# Altium schematic symbol library connector.SchLib: 40 symbols
Pins are listed as number, name and electrical type; pins without a type are passive.

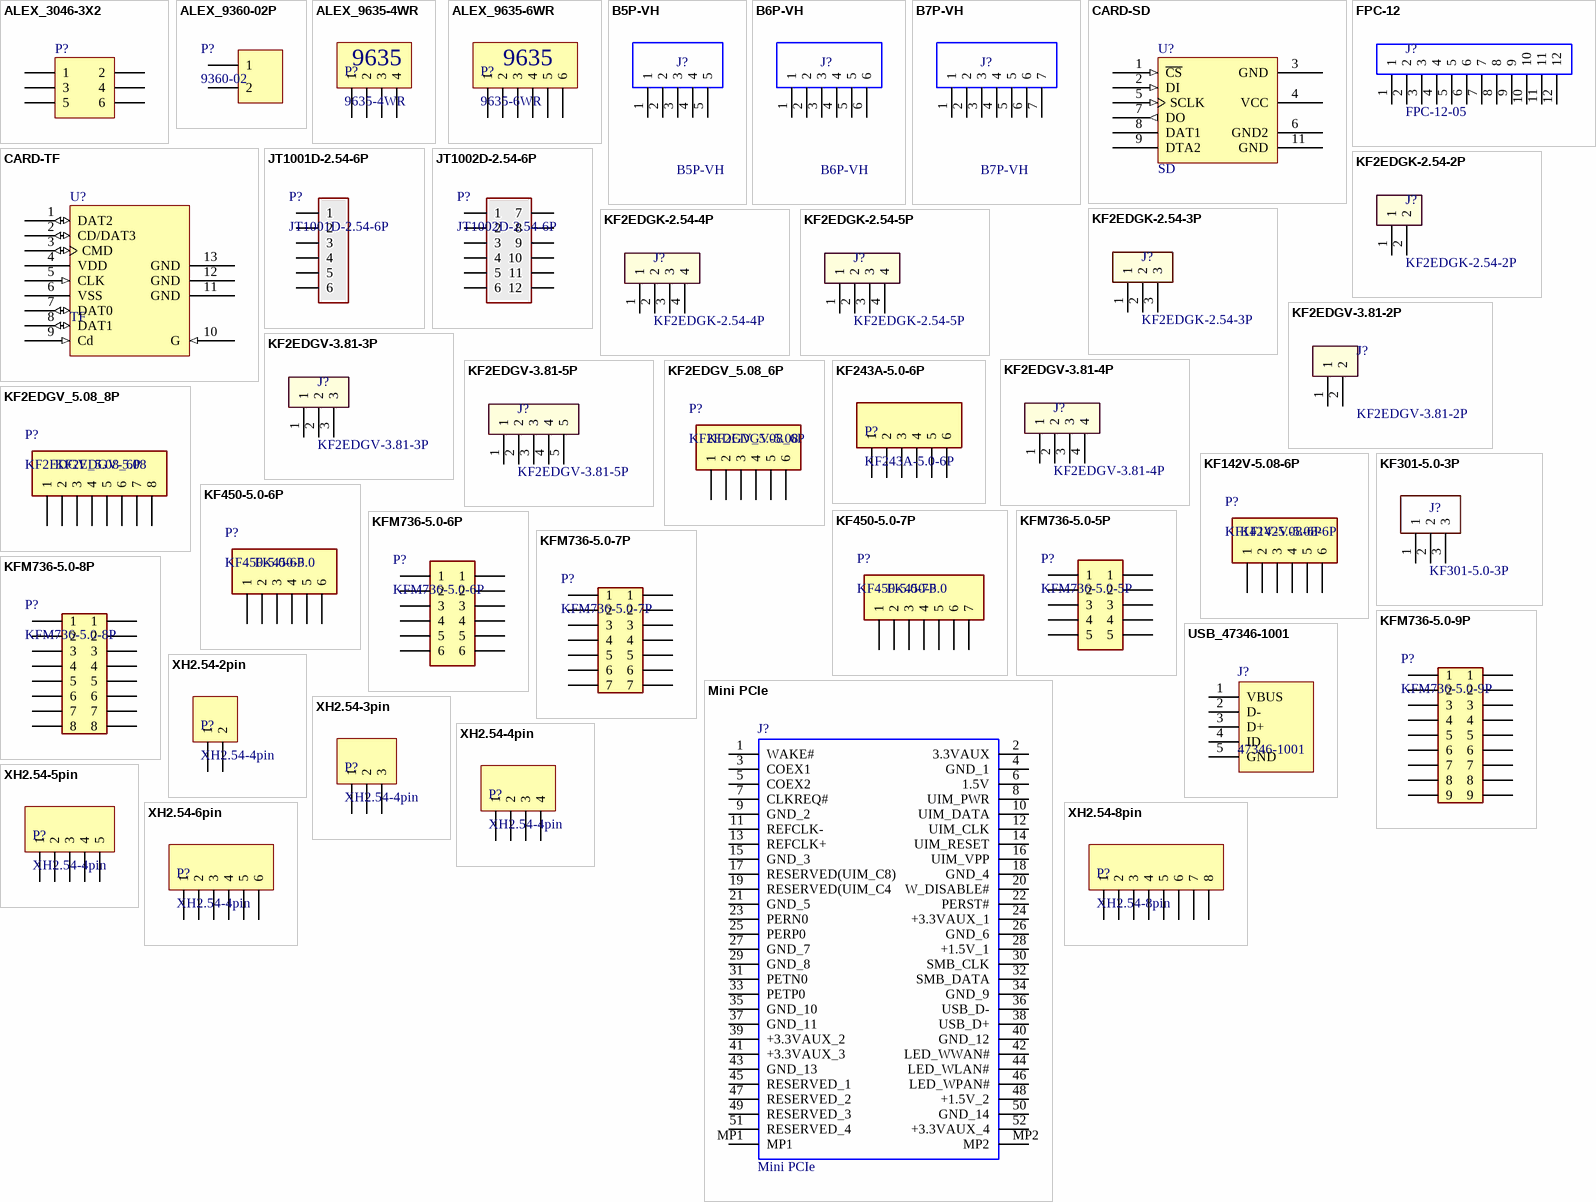
[diagram p0: symbols ALEX_3046-3X2 to XH2.54-8pin]

## ALEX_3046-3X2
designator P?, comment Header 3X2  (value not drawn)
ALEX3046-6P; LatestRevisionDate: 17-Jul-2002; LatestRevisionNote: Re-released for DXP Platform.; Publisher: Altium Limited; ComponentLink1Description: 网络链接; ComponentLink1URL: http://www.alexconn.net/c552.html
footprint ALEX_3046-N (配套3025-N)
pins: 1, 2, 3, 4, 5, 6

## ALEX_9360-02P
designator P?, comment 9360-02
Mini Fit直角接头/ .165“（4.20mm）电源连接器; ComponentLink1Description: 产品网络链接; ComponentLink1URL: http://www.alexconn.net/c521.html
footprint ALEX_9360-2P (Mini Fit直角接头/ .165“（4.20mm）电源连接器)
pins: 1, 2

## ALEX_9635-4WR
designator P?, comment 9635-4WR
直角接头6.35电源连接器; ComponentLink1Description: 产品网络链接; ComponentLink1URL: http://www.alexconn.net/c790.html
footprint ALEX_9635-4WR (Footprint not found)
pins: 1, 2, 3, 4
text: 9635

## ALEX_9635-6WR
designator P?, comment 9635-6WR
直角接头6.35电源连接器; ComponentLink1Description: 产品网络链接; ComponentLink1URL: http://www.alexconn.net/c790.html
footprint ALEX_9635-6WR (亚达康电源连接器)
pins: 1, 2, 3, 4, 5, 6
text: 9635

## B5P-VH
designator J?
VH-3.96mm Header top entry 5 way JST VH Series, Series Number B5P, 3.96mm Pitch 5 Way 1 Row Shrouded Straight PCB Header, Through Hole; Manufacturer_Name: JST (JAPAN SOLDERLESS TERMINALS); Manufacturer_Part_Number: B5P-VH(LF)(SN); Geometry.Height: 10.9mm; RS Part Number: 8201169P; RS Price/Stock: http://china.rs-online.com/web/p/products/8201169P; Arrow Part Number: B5P-VH(LF)(SN); Arrow Price/Stock: https://www.arrow.com/en/products/b5p-vh-lf-sn/jst-manufacturing; Datasheet Link: https://componentsearchengine.com/Datasheets/2/B5P-VH(LF)(SN).pdf; ComponentLink1Description: 供应商; ComponentLink1URL: https://item.taobao.com/item.htm?spm=a230r.1.14.131.16e64711CxwvJs&id=531944925306&ns=1&abbucket=16#detail
footprint B5P-VH
pins: 1, 2, 3, 4, 5

## B6P-VH
designator J?
VH-3.96mm Header top entry 5 way JST VH Series, Series Number B5P, 3.96mm Pitch 5 Way 1 Row Shrouded Straight PCB Header, Through Hole; Manufacturer_Name: JST (JAPAN SOLDERLESS TERMINALS); Manufacturer_Part_Number: B5P-VH(LF)(SN); Geometry.Height: 10.9mm; RS Part Number: 8201169P; RS Price/Stock: http://china.rs-online.com/web/p/products/8201169P; Arrow Part Number: B5P-VH(LF)(SN); Arrow Price/Stock: https://www.arrow.com/en/products/b5p-vh-lf-sn/jst-manufacturing; Datasheet Link: https://componentsearchengine.com/Datasheets/2/B5P-VH(LF)(SN).pdf; ComponentLink1Description: 供应商; ComponentLink1URL: https://item.taobao.com/item.htm?spm=a230r.1.14.131.16e64711CxwvJs&id=531944925306&ns=1&abbucket=16#detail
footprint B6P-VH
pins: 1, 2, 3, 4, 5, 6

## B7P-VH
designator J?
VH-3.96mm Header top entry 5 way JST VH Series, Series Number B5P, 3.96mm Pitch 5 Way 1 Row Shrouded Straight PCB Header, Through Hole; Manufacturer_Name: JST (JAPAN SOLDERLESS TERMINALS); Manufacturer_Part_Number: B5P-VH(LF)(SN); Geometry.Height: 10.9mm; RS Part Number: 8201169P; RS Price/Stock: http://china.rs-online.com/web/p/products/8201169P; Arrow Part Number: B5P-VH(LF)(SN); Arrow Price/Stock: https://www.arrow.com/en/products/b5p-vh-lf-sn/jst-manufacturing; Datasheet Link: https://componentsearchengine.com/Datasheets/2/B5P-VH(LF)(SN).pdf; ComponentLink1Description: 供应商; ComponentLink1URL: https://item.taobao.com/item.htm?spm=a230r.1.14.131.16e64711CxwvJs&id=531944925306&ns=1&abbucket=16#detail
footprint B7P-VH
pins: 1, 2, 3, 4, 5, 6, 7

## CARD-SD
designator U?, comment SD
SD卡槽
footprint CARD-SD
pins: 1 ~{CS} (in), 2 DI (in), 3 GND (power), 4 VCC (power), 5 SCLK (in), 6 GND2 (power), 7 DO (out), 8 DAT1, 9 DTA2, 11 GND (power)

## CARD-TF
designator U?, comment TF
TF卡槽
footprint CARD-TF
pins: 1 DAT2 (io), 2 CD/DAT3 (io), 3 CMD (io), 4 VDD (power), 5 CLK (in), 6 VSS (power), 7 DAT0 (io), 8 DAT1 (io), 9 Cd (in), 10 G (in), 11 GND (power), 12 GND (power), 13 GND (power)

## FPC-12
designator J?, comment FPC-12-05
FPC贴片端子; Manufacturer_Name: CIXI KEFA ELECTRONICS; Manufacturer_Part_Number: KF2EDGV-3.81; Geometry.Height: 9.2mm; Mouser Part Number: *; Mouser Price/Stock: *; RS Part Number: *; RS Price/Stock: *; Datasheet Link: http://en.cnkefa.com/uploads/2016/07/121709071486.pdf; ComponentLink1Description: 生产商; ComponentLink1URL: http://www.sofng.com/FPC/FFCsocket/2015/0331/195.html
footprint FPC-12
pins: 1, 2, 3, 4, 5, 6, 7, 8, 9, 10, 11, 12

## JT1001D-2.54-6P
designator P?
俊腾连接器; ComponentLink1Description: 俊腾连接器; ComponentLink1URL: http://www.nb-junteng.cn/product_info.aspx?id=179&cid=26
pins: 1, 2, 3, 4, 5, 6

## JT1002D-2.54-6P
designator P?
俊腾连接器; ComponentLink1Description: 俊腾连接器; ComponentLink1URL: http://www.nb-junteng.cn/product_info.aspx?id=180&cid=26
pins: 1, 2, 3, 4, 5, 6, 7, 8, 9, 10, 11, 12

## KF2EDGK-2.54-2P
designator J?
科发端子; Manufacturer_Name: CIXI KEFA ELECTRONICS; Manufacturer_Part_Number: KF2EDGV-3.81; Geometry.Height: 9.2mm; Mouser Part Number: *; Mouser Price/Stock: *; RS Part Number: *; RS Price/Stock: *; Datasheet Link: http://en.cnkefa.com/uploads/2016/07/121709071486.pdf; ComponentLink1Description: 科发端子; ComponentLink1URL: http://www.cnkefa.com/product/3141.html
footprint KF2EDGK-2.54-2P
pins: 1, 2

## KF2EDGK-2.54-3P
designator J?
科发端子; Manufacturer_Name: CIXI KEFA ELECTRONICS; Manufacturer_Part_Number: KF2EDGV-3.81; Geometry.Height: 9.2mm; Mouser Part Number: *; Mouser Price/Stock: *; RS Part Number: *; RS Price/Stock: *; Datasheet Link: http://en.cnkefa.com/uploads/2016/07/121709071486.pdf; ComponentLink1Description: 科发端子; ComponentLink1URL: http://www.cnkefa.com/product/3141.html
footprint KF2EDGK-2.54-3P
pins: 1, 2, 3

## KF2EDGK-2.54-4P
designator J?
科发端子; Manufacturer_Name: CIXI KEFA ELECTRONICS; Manufacturer_Part_Number: KF2EDGV-3.81; Geometry.Height: 9.2mm; Mouser Part Number: *; Mouser Price/Stock: *; RS Part Number: *; RS Price/Stock: *; Datasheet Link: http://en.cnkefa.com/uploads/2016/07/121709071486.pdf; ComponentLink1Description: 科发端子; ComponentLink1URL: http://www.cnkefa.com/product/3141.html
footprint KF2EDGK-2.54-4P
pins: 1, 2, 3, 4

## KF2EDGK-2.54-5P
designator J?
科发端子; Manufacturer_Name: CIXI KEFA ELECTRONICS; Manufacturer_Part_Number: KF2EDGV-3.81; Geometry.Height: 9.2mm; Mouser Part Number: *; Mouser Price/Stock: *; RS Part Number: *; RS Price/Stock: *; Datasheet Link: http://en.cnkefa.com/uploads/2016/07/121709071486.pdf; ComponentLink1Description: 科发端子; ComponentLink1URL: http://www.cnkefa.com/product/3141.html
footprint KF2EDGV-3.81-4P
pins: 1, 2, 3, 4

## KF2EDGV-3.81-2P
designator J?
科发端子; Manufacturer_Name: CIXI KEFA ELECTRONICS; Geometry.Height: 9.2mm; Manufacturer_Part_Number: KF2EDGV-3.81; Mouser Part Number: *; Mouser Price/Stock: *; RS Part Number: *; RS Price/Stock: *; Datasheet Link: http://en.cnkefa.com/uploads/2016/07/121709071486.pdf
footprint KF2EDGV-3.81-2P
pins: 1, 2

## KF2EDGV-3.81-3P
designator J?
科发端子; Manufacturer_Name: CIXI KEFA ELECTRONICS; Geometry.Height: 9.2mm; Manufacturer_Part_Number: KF2EDGV-3.81; Mouser Part Number: *; Mouser Price/Stock: *; RS Part Number: *; RS Price/Stock: *; Datasheet Link: http://en.cnkefa.com/uploads/2016/07/121709071486.pdf; ComponentLink1Description: 科发端子; ComponentLink1URL: http://www.cnkefa.com/product/3731.html
footprint KF2EDGV-3.81-3P
pins: 1, 2, 3

## KF2EDGV-3.81-4P
designator J?
科发端子; Manufacturer_Name: CIXI KEFA ELECTRONICS; Geometry.Height: 9.2mm; Manufacturer_Part_Number: KF2EDGV-3.81; Mouser Part Number: *; Mouser Price/Stock: *; RS Part Number: *; RS Price/Stock: *; Datasheet Link: http://en.cnkefa.com/uploads/2016/07/121709071486.pdf; ComponentLink1Description: 科发端子; ComponentLink1URL: http://www.cnkefa.com/product/3731.html
footprint KF2EDGV-3.81-4P
pins: 1, 2, 3, 4

## KF2EDGV-3.81-5P
designator J?
科发端子; Manufacturer_Name: CIXI KEFA ELECTRONICS; Geometry.Height: 9.2mm; Manufacturer_Part_Number: KF2EDGV-3.81; Mouser Part Number: *; Mouser Price/Stock: *; RS Part Number: *; RS Price/Stock: *; Datasheet Link: http://en.cnkefa.com/uploads/2016/07/121709071486.pdf; ComponentLink1Description: 科发端子; ComponentLink1URL: http://www.cnkefa.com/product/3731.html
footprint KF2EDGV-3.81-5P (Footprint not found)
pins: 1, 2, 3, 4, 5

## KF2EDGV_5.08_6P
designator P?
科发端子; ComponentLink1Description: 科发端子; ComponentLink1URL: http://www.cnkefa.com/product/4691.html; ComponentLink2Description: 配套插入端子; ComponentLink2URL: http://www.cnkefa.com/product/3961.html
footprint KF2EDGV-5.08-6P
pins: 1, 2, 3, 4, 5, 6
text: KF2EDGV-5.08

## KF2EDGV_5.08_8P
designator P?, comment KF2EDGV_5.08_6P
科发端子; ComponentLink1Description: 科发端子; ComponentLink1URL: http://www.cnkefa.com/product/4691.html; ComponentLink2Description: 配套插入端子; ComponentLink2URL: http://www.cnkefa.com/product/3961.html
footprint KF2EDGV-5.08-8P
pins: 1, 2, 3, 4, 5, 6, 7, 8
text: KF2EDGV-5.08

## KF142V-5.08-6P
designator P?
科发端子; ComponentLink1Description: 科发端子; ComponentLink1URL: http://www.cnkefa.com/product/2161.html
footprint KF142V-5.08-6P
pins: 1, 2, 3, 4, 5, 6

## KF243A-5.0-6P
designator P?
科发端子
footprint KF243-5.0-6P
pins: 1, 2, 3, 4, 5, 6

## KF301-5.0-3P
designator J?
3pin端子; Manufacturer_Name: CIXI KEFA ELECTRONICS; Manufacturer_Part_Number: KF2EDGV-3.81; Geometry.Height: 9.2mm; Mouser Part Number: *; Mouser Price/Stock: *; RS Part Number: *; RS Price/Stock: *; Datasheet Link: http://en.cnkefa.com/uploads/2016/07/121709071486.pdf; ComponentLink1Description: 科发端子; ComponentLink1URL: http://www.cnkefa.com/product/3141.html
footprint KF301-5.0-3P
pins: 1, 2, 3

## KF450-5.0-6P
designator P?
科发端子; ComponentLink1Description: 科发端子; ComponentLink1URL: http://www.cnkefa.com/product/2471.html
footprint KF450-5.0-6P
pins: 1, 2, 3, 4, 5, 6
text: FK450-5.0

## KF450-5.0-7P
designator P?
科发端子; ComponentLink1Description: 科发端子; ComponentLink1URL: http://www.cnkefa.com/product/2471.html
footprint KF450-5.0-7P
pins: 1, 2, 3, 4, 5, 6, 7
text: FK450-5.0

## KFM736-5.0-5P
designator P?
科发端子; ComponentLink1Description: 科发端子; ComponentLink1URL: http://www.cnkefa.com/product/2471.html
footprint KFM736-5.0-5P
pins: 1, 1, 2, 2, 3, 3, 4, 4, 5, 5

## KFM736-5.0-6P
designator P?
科发端子; ComponentLink1Description: 科发端子; ComponentLink1URL: http://www.cnkefa.com/product/2471.html
footprint KFM736-5.0-6P
pins: 1, 1, 2, 2, 3, 3, 4, 4, 5, 5, 6, 6

## KFM736-5.0-7P
designator P?
科发端子; ComponentLink1Description: 科发端子; ComponentLink1URL: http://www.cnkefa.com/product/2471.html
footprint KFM736-5.0-7P
pins: 1, 1, 2, 2, 3, 3, 4, 4, 5, 5, 6, 6, 7, 7

## KFM736-5.0-8P
designator P?
科发端子; ComponentLink1Description: 科发端子; ComponentLink1URL: http://www.cnkefa.com/product/2471.html
footprint KFM736-5.0-8P
pins: 1, 1, 2, 2, 3, 3, 4, 4, 5, 5, 6, 6, 7, 7, 8, 8

## KFM736-5.0-9P
designator P?
科发端子; ComponentLink1Description: 科发端子; ComponentLink1URL: http://www.cnkefa.com/product/2471.html
footprint KFM736-5.0-9P
pins: 1, 1, 2, 2, 3, 3, 4, 4, 5, 5, 6, 6, 7, 7, 8, 8, 9, 9

## Mini PCIe
designator J?
PCI Express / PCI Connectors mSATA/mini PCI-E 5.2H Type I G/F; Manufacturer_Name: TE Connectivity; Manufacturer_Part_Number: 1775862-2; Geometry.Height: 5.2mm; Mouser Part Number: 571-1775862-2; Mouser Price/Stock: https://www.mouser.com/Search/Refine.aspx?Keyword=571-1775862-2; RS Part Number: *; RS Price/Stock: *; Datasheet Link: https://www.te.com/commerce/DocumentDelivery/DDEController?Action=srchrtrv&DocNm=1775862&DocType=Customer+Drawing&DocLang=English&DocFormat=pdf&PartCntxt=1775862-2
footprint Mini PCIe-C
pins: 1 WAKE#, 2 3.3VAUX, 3 COEX1, 4 GND_1, 5 COEX2, 6 1.5V, 7 CLKREQ#, 8 UIM_PWR, 9 GND_2, 10 UIM_DATA, 11 REFCLK-, 12 UIM_CLK, 13 REFCLK+, 14 UIM_RESET, 15 GND_3, 16 UIM_VPP, 17 RESERVED(UIM_C8), 18 GND_4, 19 RESERVED(UIM_C4, 20 W_DISABLE#, 21 GND_5, 22 PERST#, 23 PERN0, 24 +3.3VAUX_1, 25 PERP0, 26 GND_6, 27 GND_7, 28 +1.5V_1, 29 GND_8, 30 SMB_CLK, 31 PETN0, 32 SMB_DATA, 33 PETP0, 34 GND_9, 35 GND_10, 36 USB_D-, 37 GND_11, 38 USB_D+, 39 +3.3VAUX_2, 40 GND_12, 41 +3.3VAUX_3, 42 LED_WWAN#, 43 GND_13, 44 LED_WLAN#, 45 RESERVED_1, 46 LED_WPAN#, 47 RESERVED_2, 48 +1.5V_2, 49 RESERVED_3, 50 GND_14, 51 RESERVED_4, 52 +3.3VAUX_4, MP1, MP2

## USB_47346-1001
designator J?, comment 47346-1001
USB连接器; Manufacturer_Name: Molex; Manufacturer_Part_Number: 47346-1001; Mouser Part Number: 538-47346-1001; Mouser Price/Stock: https://www.mouser.com/Search/Refine.aspx?Keyword=538-47346-1001; RS Part Number: 1788764; RS Price/Stock: http://uk.rs-online.com/web/p/products/1788764; Datasheet Link: http://www.molex.com/webdocs/datasheets/pdf/en-us/0473461001_IO_CONNECTORS.pdf
footprint 47346-0001
pins: 1 VBUS, 2 D-, 3 D+, 4 ID, 5 GND

## XH2.54-2pin
designator P?, comment XH2.54-4pin
白色端子
footprint XH2.5-2P
pins: 1, 2

## XH2.54-3pin
designator P?, comment XH2.54-4pin
白色端子
footprint XH2.5-3P
pins: 1, 2, 3

## XH2.54-4pin
designator P?
白色端子
footprint XH2.5-4P
pins: 1, 2, 3, 4

## XH2.54-5pin
designator P?, comment XH2.54-4pin
白色端子
footprint XH2.54-5P
pins: 1, 2, 3, 4, 5

## XH2.54-6pin
designator P?, comment XH2.54-4pin
白色端子
footprint XH2.5-6P
pins: 1, 2, 3, 4, 5, 6

## XH2.54-8pin
designator P?
白色端子
footprint XH2.5-8P
pins: 1, 2, 3, 4, 5, 6, 7, 8